# Altium schematic symbol library SS8550_PNP.SchLib: 1 symbol
Pins are listed as number, name and electrical type; pins without a type are passive.

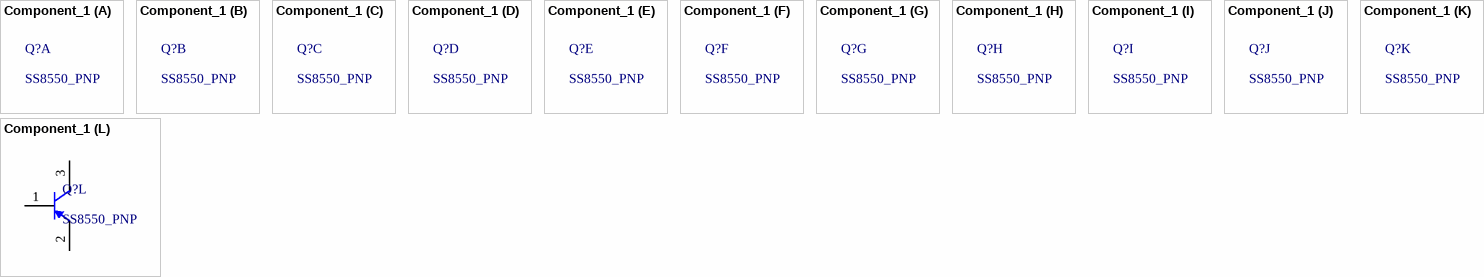
[diagram p0: symbol Component_1]

## Component_1
designator Q?, comment SS8550_PNP
footprint PCBComponent_1
part L pins: 1 B, 2 E, 3 C